# EAGLE library part AT25M01 (library aurai)
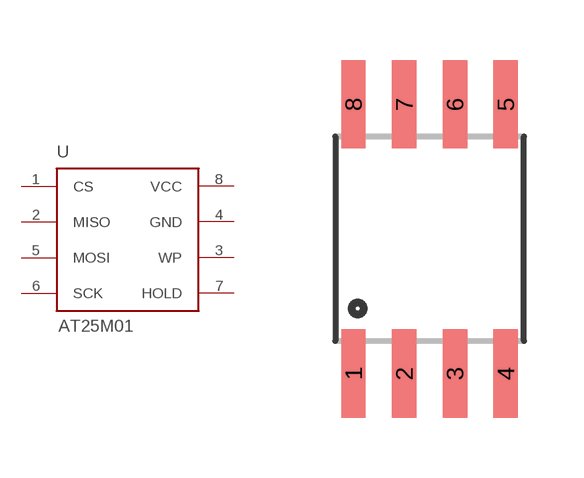
[diagram p0: symbol with the pads of SO08-EIAJ; footprint SO08-EIAJ]

Designator prefix U

## AT25M01-SHM-B  [SO08-EIAJ]
1  CS  in
2  MISO  out
3  WP  in
4  GND  pwr
5  MOSI  in
6  SCK  in
7  HOLD  in
8  VCC  pwr

## Footprint SO08-EIAJ (pad centres in mm)
Slightly wider version of the SOIC-8
smd 0.61 x 2.21: 1 -1.905,-3.378; 2 -0.635,-3.378; 3 0.635,-3.378; 4 1.905,-3.378; 5 1.905,3.353; 6 0.635,3.353; 7 -0.635,3.353; 8 -1.905,3.353